# EAGLE library part LAYOUT_LT3685EMSEPBF (library Mother-Board-rev5)
36V, 2A, 2.4MHz Step-Down Switching Regulator
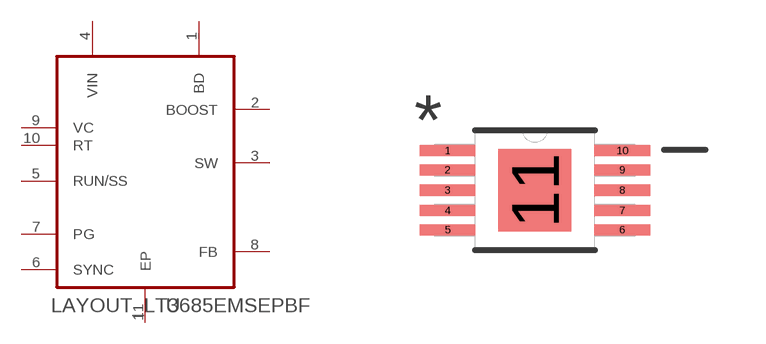
[diagram p2: symbol with the pads of LAYOUT_SOP50P490X110-11N; footprint LAYOUT_SOP50P490X110-11N]

Designator prefix U

## LAYOUT_LT3685EMSEPBF (MPN: LT3685EMSE#PBF; OC_FARNELL: 1663580; OC_NEWARK: 57M8562; PACKAGE: MSOP-10; SUPPLIER: Linear Technology)  [LAYOUT_SOP50P490X110-11N]
1  BD  in
2  BOOST  pwr
3  SW  out
4  VIN  pwr
5  RUN/SS  in
6  SYNC  in
7  PG  out
8  FB  in
9  VC  out
10  RT  in
11  EP  pas

## Footprint LAYOUT_SOP50P490X110-11N (pad centres in mm)
smd 1.397 x 0.279: 1 -2.184,0.991; 2 -2.184,0.508; 3 -2.184,0; 4 -2.184,-0.508; 5 -2.184,-0.991; 6 2.184,-0.991; 7 2.184,-0.508; 8 2.184,0; 9 2.184,0.508; 10 2.184,0.991
smd 1.829 x 2.057: 11 0,0